# EAGLE library part CON-20P (library Connectors)
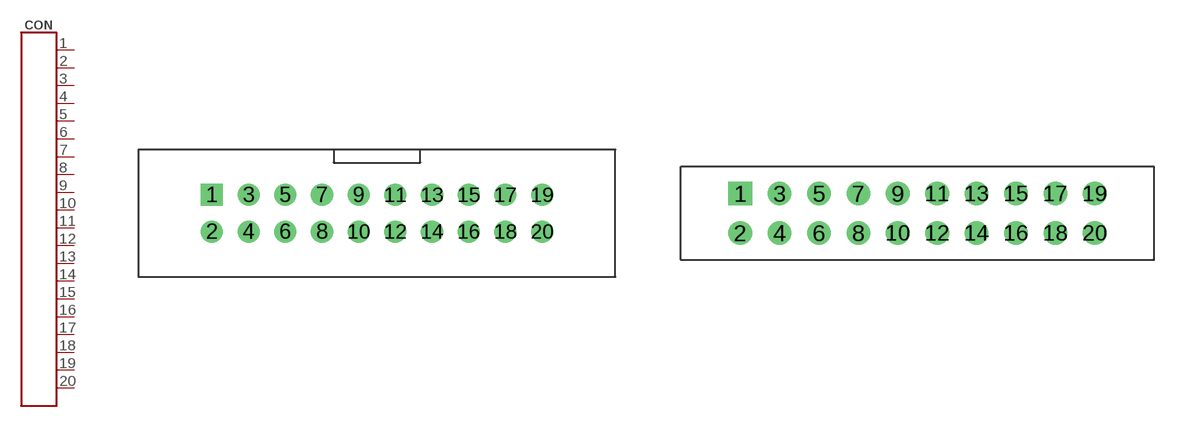
[diagram p32: symbol with the pads of DS1013-20S; footprints DS1013-20S, DS1018-20]

Designator prefix CON

## CON-20P-IDC (MANF: Connfly electronic; MANF#: DS1013-20S)  [DS1013-20S]
1  1
2  2
3  3
4  4
5  5
6  6
7  7
8  8
9  9
10  10
11  11
12  12
13  13
14  14
15  15
16  16
17  17
18  18
19  19
20  20

## CON-20P-FDC (MANF: Connfly electronic; MANF#: DS1018-20)  [DS1018-20]
Pads as for DS1013-20S

## CON-20P-IDC-R (MANF: Connfly electronic; MANF#: DS1013-20R)  [DS1013-20R]
Pads as for DS1013-20S

## Footprint DS1013-20S (pad centres in mm)
Drawing <https://static.chipdip.ru/lib/463/DOC002463525.pdf> 3D model <https://grabcad.com/library/idc-connector-collection-2-54-mm-1>
drill 1.02 square: 1 -11.43,1.27
drill 1.02: 2 -11.43,-1.27; 3 -8.89,1.27; 4 -8.89,-1.27; 5 -6.35,1.27; 6 -6.35,-1.27; 7 -3.81,1.27; 8 -3.81,-1.27; 9 -1.27,1.27; 10 -1.27,-1.27; 11 1.27,1.27; 12 1.27,-1.27; 13 3.81,1.27; 14 3.81,-1.27; 15 6.35,1.27; 16 6.35,-1.27; 17 8.89,1.27; 18 8.89,-1.27; 19 11.43,1.27; 20 11.43,-1.27

## Footprint DS1018-20 (pad centres in mm)
Drawing <https://static.chipdip.ru/lib/463/DOC002463525.pdf>
drill 1.02 square: 1 -11.43,1.27
drill 1.02: 2 -11.43,-1.27; 3 -8.89,1.27; 4 -8.89,-1.27; 5 -6.35,1.27; 6 -6.35,-1.27; 7 -3.81,1.27; 8 -3.81,-1.27; 9 -1.27,1.27; 10 -1.27,-1.27; 11 1.27,1.27; 12 1.27,-1.27; 13 3.81,1.27; 14 3.81,-1.27; 15 6.35,1.27; 16 6.35,-1.27; 17 8.89,1.27; 18 8.89,-1.27; 19 11.43,1.27; 20 11.43,-1.27

## Footprint DS1013-20R (pad centres in mm)
Drawing <https://static.chipdip.ru/lib/463/DOC002463525.pdf> 3D model <https://grabcad.com/library/idc-r-connector-collection-2-54-mm-1>
drill 1.02 square: 1 -11.43,1.27
drill 1.02: 2 -11.43,-1.27; 3 -8.89,1.27; 4 -8.89,-1.27; 5 -6.35,1.27; 6 -6.35,-1.27; 7 -3.81,1.27; 8 -3.81,-1.27; 9 -1.27,1.27; 10 -1.27,-1.27; 11 1.27,1.27; 12 1.27,-1.27; 13 3.81,1.27; 14 3.81,-1.27; 15 6.35,1.27; 16 6.35,-1.27; 17 8.89,1.27; 18 8.89,-1.27; 19 11.43,1.27; 20 11.43,-1.27